# Altium footprint library MedEnginePCBLib.PcbLib: 54 footprints (part 1 of 4)
Each footprint in its own frame and in the unit in brackets; x right, y up, seen from the top. Pads: shape width x height; smd on the part's side, far side on the other; paste and mask are expansions set on the pad; w line width, h text height; cw(c..) or ccw(c..) is an arc to the next point about the centre after c.
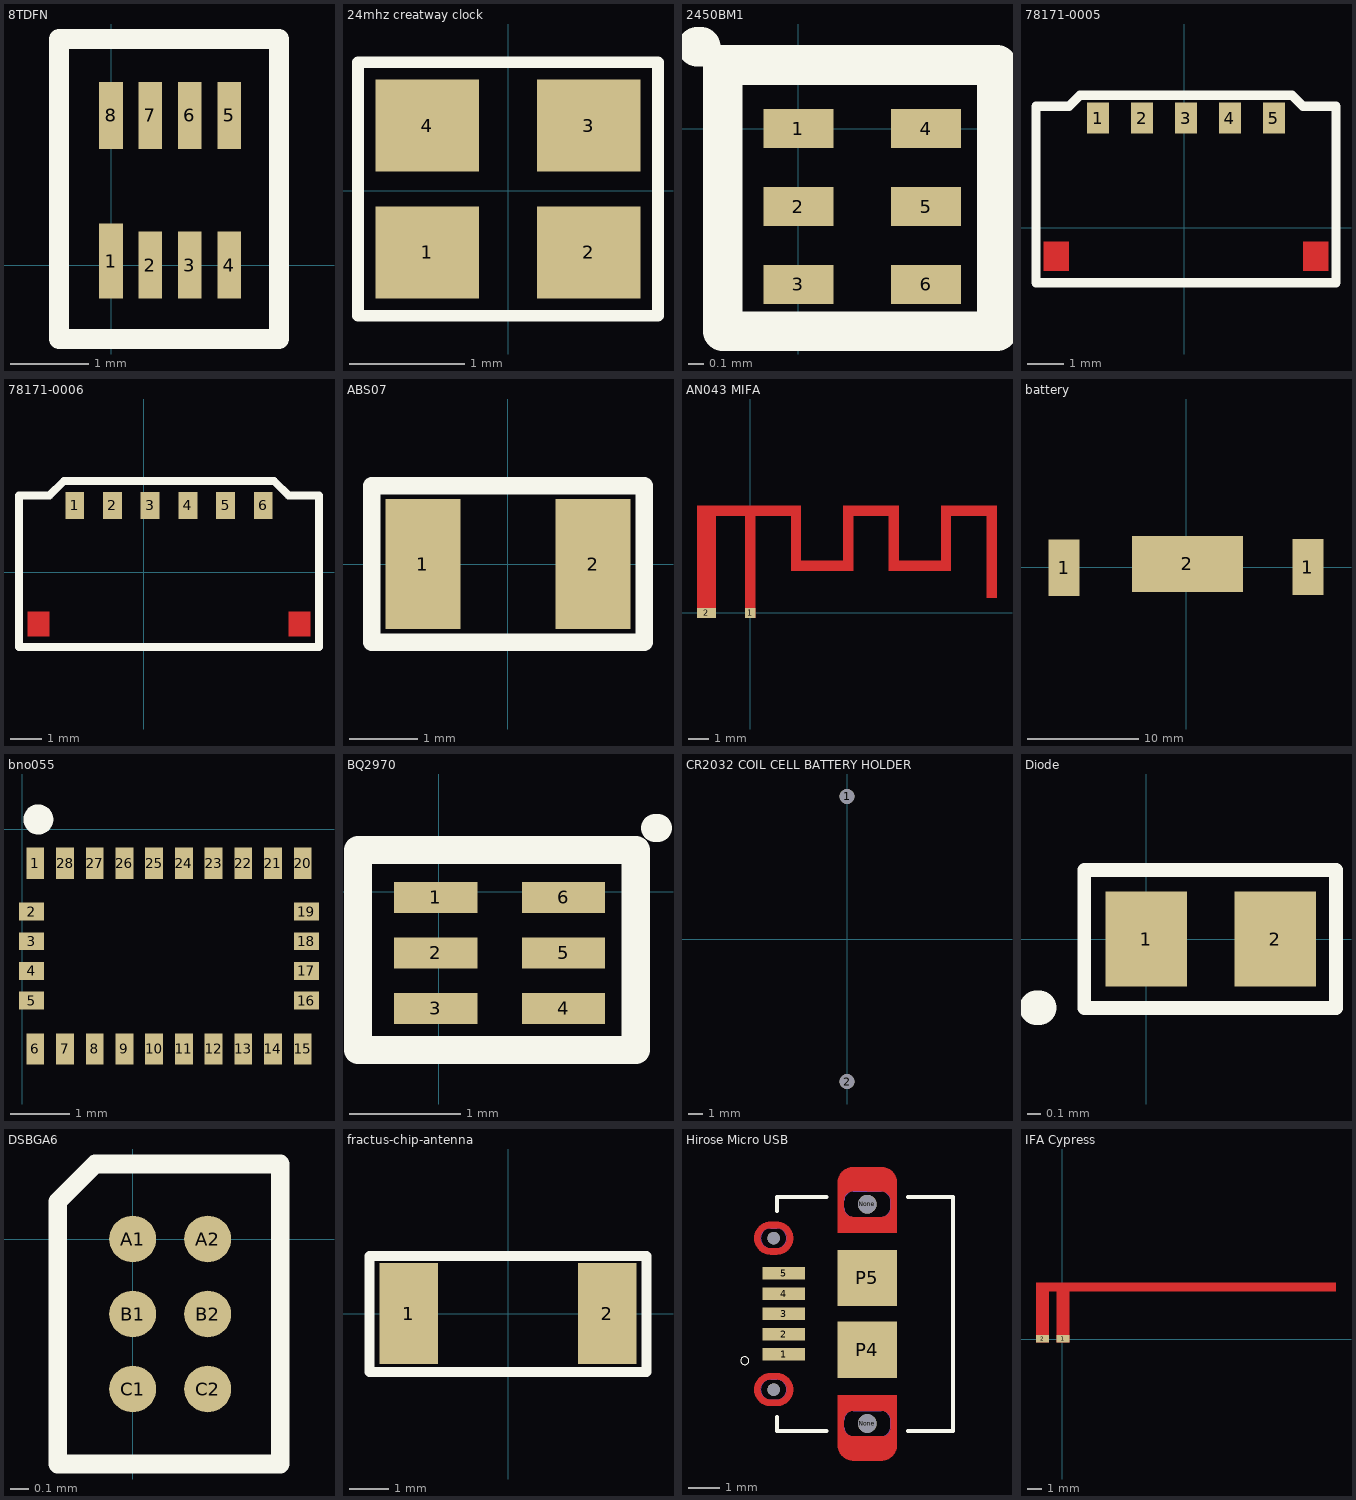
[diagram p0: the footprints below, top view; thin cyan lines are the x and y axes]

## 8TDFN [mm] "For MAX14595 (land pattern 90-0349)"
pads (8):
  rect 0.3x0.95 smd mask+0.05: 1(0,0.051)
  rect 0.3x0.85 smd mask+0.05: 2(0.5,0) 3(1,0) 4(1.5,0) 5(1.5,1.9) 6(1,1.9) 7(0.5,1.9) 8(0,1.9)
Top Overlay:
  lines w0.254: -0.66,-0.94 2.134,-0.94 2.134,2.87 0.737,2.87 -0.66,2.87 -0.66,-0.94
3D body: height 0.75, standoff 0, extent -0.279,-0.051 1.803,1.956

## 24mhz creatway clock [mm]
pads (4):
  rect 0.9x0.8 smd: 1(-0.7,-0.533) 2(0.7,-0.533) 3(0.7,0.567) 4(-0.7,0.567)
Top Overlay:
  lines w0.1: -1.3,-1.083 1.3,-1.083 1.3,1.117 -1.3,1.117 -1.3,-1.083

## 2450BM1 [mm]
pads (6):
  rect 0.45x0.25 smd mask+0.05: 1(0,0) 2(0,-0.5) 3(0,-1) 4(0.82,0) 5(0.82,-0.5) 6(0.82,-1)
Top Overlay:
  lines w0.254: -0.65,0.525 -0.625,0.525 ; -0.485,-1.3 -0.485,0.408 1.275,0.408 1.275,-1.3 -0.485,-1.3

## 78171-0005 [mm] "PicoMate 5 way header"
height 2
pads (5):
  rect 0.6x0.85 smd mask+0.05: 1(-2.35,3) 2(-1.15,3) 3(0.05,3) 4(1.25,3) 5(2.45,3)
Top Layer:
  rectangle: -3.85,-1.175 -3.15,-0.375
  rectangle: 3.25,-1.175 3.95,-0.375
Top Overlay:
  lines w0.254: -4.05,-1.5 4.15,-1.5 4.15,3.325 3.25,3.325 2.95,3.625 -2.85,3.625 -3.15,3.325 -4.05,3.325 -4.05,-1.5
3D body "PicoMate5.stp": height 1.4, standoff -0.05, extent -3.85,-1.365 3.95,3.165

## 78171-0006 [mm]
pads (6):
  rect 0.6x0.85 smd mask+0.05: 1(-2.2,2.125) 2(-1,2.125) 3(0.2,2.125) 4(1.4,2.125) 5(2.6,2.125) 6(3.8,2.125)
Top Layer:
  rectangle: -3.7,-2.05 -3,-1.25
  rectangle: 4.6,-2.05 5.3,-1.25
Top Overlay:
  lines w0.254: -3.975,-2.375 5.575,-2.375 5.575,2.45 4.6,2.45 4.15,2.9 -2.55,2.9 -3,2.45 -3.975,2.45 -3.975,-2.375
3D body "781715006.stp": height 1.4, standoff -0.05, extent -3.7,-2.125 5.3,2.405

## ABS07 [mm] "32.768kHz Crystal"
height 1
pads (2):
  rect 1.1x1.9 smd mask+0.05: 1(-1.25,0) 2(1.25,0)
Top Overlay:
  lines w0.254: -2,-1.15 -2,1.15 2,1.15 2,-1.15 -2,-1.15
3D body "ABS07.STEP": height 0.89, standoff 0, extent -1.6,-0.749 1.6,0.749

## AN043 MIFA [mm]
pads (2):
  rect 0.5x0.5 smd paste-10 mask+0.102: 1(0,0)
  rect 0.9x0.5 smd paste-10 mask+0.102: 2(-2.1,0)
Top Layer:
  rectangle: 11.35,4.2 11.85,5.15
  rectangle: 9.15,4.3 9.65,5.15
  rectangle: 8.925,2.01 9.65,2.51
  rectangle: 6.95,2.01 7.4,2.51
  rectangle: 6.65,4.35 7.15,5.15
  rectangle: 4.45,4.425 4.95,5.15
  rectangle: 4.15,2.01 4.95,2.51
  rectangle: 2.275,2.01 2.825,2.51
  rectangle: 1.95,4.425 2.45,4.8
  rectangle: -0.25,4.6 0.25,4.725
  rectangle: -2.55,4.575 -1.65,5.15
  rectangle: 11.35,0.71 11.85,4.65
  rectangle: 9.15,4.65 11.85,5.15
  rectangle: 9.15,2.01 9.65,4.65
  rectangle: 7.15,2.01 9.15,2.51
  rectangle: 6.65,2.01 7.15,4.65
  rectangle: 4.45,2.01 4.95,4.65
  rectangle: -0.25,-0.25 0.25,4.65
  rectangle: 4.45,4.65 7.15,5.15
  rectangle: 2.45,2.01 4.45,2.51
  rectangle: 1.95,2.01 2.45,4.65
  rectangle: -2.55,4.65 2.45,5.15
  rectangle: -2.55,-0.25 -1.65,4.65

## battery [mm]
pads (3):
  rect 2.79x5.08 smd mask+0: 1(-10.985,-0.075) 1(10.985,0)
  rect 10x5.08 smd mask+0: 2(0.125,0.275)
3D body "BK-912.STEP": height 4.32, standoff 0, extent -11.25,-7.972 11.61,7.272

## bno055 [mm]
pads (28):
  rect 0.3x0.525 smd: 1(0.224,-0.576) 6(0.224,-3.7) 7(0.724,-3.7) 8(1.224,-3.7) 9(1.724,-3.7) 10(2.224,-3.7) 11(2.724,-3.7) 12(3.224,-3.7) 13(3.724,-3.7) 14(4.224,-3.7) 15(4.724,-3.7) 20(4.724,-0.576) 21(4.224,-0.576) 22(3.724,-0.576) 23(3.224,-0.576) 24(2.724,-0.576) 25(2.224,-0.576) 26(1.724,-0.576) 27(1.224,-0.576) 28(0.724,-0.576)
  rect 0.425x0.3 smd: 2(0.162,-1.388) 3(0.162,-1.888) 4(0.162,-2.388) 5(0.162,-2.888) 16(4.787,-2.888) 17(4.787,-2.388) 18(4.787,-1.888) 19(4.787,-1.388)
Top Overlay:
  circle w0.305: c0.274,0.162 r0.1
3D body: height 19.5, standoff 18.7, extent 2.075,-4.775 2.075,-4.775
3D body: height 19.5, standoff 18.7, extent 2.075,-4.775 2.075,-4.775
3D body: height 1, standoff 0, extent -0.125,-4.025 5.05,-0.175

## BQ2970 [mm] "PCM FOR LIP"
pads (6):
  rect 0.75x0.28 smd mask+0.05: 1(-0.025,-0.05) 2(-0.025,-0.55) 3(-0.025,-1.05) 4(1.125,-1.05) 5(1.125,-0.55) 6(1.125,-0.05)
Top Overlay:
  lines w0.254: 1.95,0.575 1.975,0.575 ; -0.725,-1.425 -0.725,0.375 1.775,0.375 1.775,-1.425 -0.725,-1.425
3D body: height 1, standoff 0, extent -0.6,-1.35 1.65,0.25

## CR2032 COIL CELL BATTERY HOLDER [mm]
pads (2):
  round 1.04 hole 1.04: 1(0,10) 2(0,-10)
3D body "BH32T-C.STEP": height 7.62, standoff -3.99, extent -12.065,-12.079 12.065,13.575

## Diode [mm] "VLMW1500"
pads (2):
  rect 0.6x0.7 smd mask+0.05: 1(0,0) 2(0.95,0)
Top Overlay:
  lines w0.1: -0.457,-0.508 -0.457,0.508 1.397,0.508 1.397,-0.508 -0.457,-0.508
  lines w0.254: -0.813,-0.508 -0.787,-0.508
3D body: height 0.35, standoff 0, extent -0.064,-0.254 1.029,0.279

## DSBGA6 [mm]
pads (6):
  round 0.25 smd mask+0: A1(0,0) A2(0.4,0) B1(0,-0.4) B2(0.4,-0.4) C1(0,-0.8) C2(0.4,-0.8)
Top Overlay:
  lines w0.1: -0.4,-1.2 0.787,-1.2 0.787,0.4 -0.2,0.4 -0.4,0.2 -0.4,-1.2
3D body "BQ25100.STEP": height 0.49, standoff -0.01, extent -0.247,-1.206 0.653,0.394

## fractus-chip-antenna [mm]
pads (2):
  rect 1.5x2.6 smd: 1(-2.55,0) 2(2.55,0)
Top Overlay:
  lines w0.254: -3.55,-1.5 3.55,-1.5 3.55,1.475 -3.55,1.475 -3.55,-1.5
3D body: height 0.25, standoff 0, extent 0,0.05 0,0.05
3D body: height 0.25, standoff 0, extent -0.45,2.012 -0.45,2.012
3D body: height 0.25, standoff 0, extent -0.45,2.012 -0.45,2.012
3D body: height 0.25, standoff 0, extent -0.45,2.012 -0.45,2.012
3D body "FR05-S1-N-0-102 CRX-102.stp": height 2.2, standoff 0.1, extent -3.5,-1.45 3.5,1.55

## Hirose Micro USB [mm]
height 4
pads (11):
  rect 1.35x0.4 smd: 1(10.226,-19.055) 2(10.226,-18.405) 3(10.226,-17.755) 4(10.226,-17.105) 5(10.226,-16.455)
  round 0.4 hole 0.4 unplated: None(9.901,-20.18) None(9.901,-15.33)
  round 0.6 hole 0.6 unplated: None(12.901,-21.268) None(12.901,-14.243)
  rect 1.9x1.8 smd: P4(12.901,-18.905) P5(12.901,-16.605)
Top Layer:
  region: 12.901,-14.655 12.901,-15.155 11.951,-15.155 11.951,-13.555 11.951,-13.542 11.952,-13.516 11.955,-13.49 11.959,-13.464 11.965,-13.438 11.971,-13.413 11.98,-13.388 11.989,-13.364 12,-13.34 12.011,-13.316 12.025,-13.294 12.039,-13.272 12.054,-13.251 12.071,-13.23 12.088,-13.211 12.107,-13.192 12.126,-13.175 12.147,-13.158 12.168,-13.143 12.19,-13.129 12.212,-13.115 12.236,-13.104 12.26,-13.093 12.284,-13.084 12.309,-13.075 12.334,-13.069 12.36,-13.063 12.386,-13.059 12.412,-13.056 12.438,-13.055 12.451,-13.055 12.901,-13.055 12.901,-13.83 12.426,-13.83 12.419,-13.83 12.404,-13.831 12.39,-13.832 12.376,-13.835 12.362,-13.838 12.348,-13.841 12.334,-13.846 12.321,-13.851 12.308,-13.857 12.295,-13.863 12.282,-13.87 12.27,-13.878 12.259,-13.887 12.247,-13.896 12.237,-13.905 12.226,-13.916 12.217,-13.926 12.208,-13.938 12.199,-13.949 12.191,-13.961 12.184,-13.974 12.178,-13.987 12.172,-14 12.167,-14.013 12.162,-14.027 12.159,-14.041 12.156,-14.055 12.153,-14.069 12.152,-14.083 12.151,-14.098 12.151,-14.105 12.151,-14.355 12.151,-14.363 12.152,-14.379 12.153,-14.394 12.156,-14.41 12.159,-14.425 12.163,-14.44 12.168,-14.455 12.174,-14.47 12.18,-14.484 12.187,-14.498 12.195,-14.512 12.204,-14.525 12.213,-14.538 12.223,-14.55 12.233,-14.562 12.244,-14.573 12.256,-14.583 12.268,-14.593 12.281,-14.602 12.294,-14.611 12.308,-14.619 12.322,-14.626 12.336,-14.632 12.351,-14.638 12.366,-14.643 12.381,-14.647 12.396,-14.65 12.412,-14.653 12.427,-14.654 12.443,-14.655 12.451,-14.655
  region: 12.901,-20.855 12.901,-20.355 13.851,-20.355 13.851,-21.955 13.851,-21.968 13.85,-21.994 13.847,-22.02 13.843,-22.046 13.837,-22.072 13.831,-22.097 13.822,-22.122 13.813,-22.146 13.802,-22.17 13.791,-22.194 13.777,-22.216 13.763,-22.238 13.748,-22.259 13.731,-22.28 13.714,-22.299 13.695,-22.318 13.676,-22.335 13.655,-22.352 13.634,-22.367 13.612,-22.381 13.59,-22.395 13.566,-22.406 13.542,-22.417 13.518,-22.426 13.493,-22.435 13.468,-22.441 13.442,-22.447 13.416,-22.451 13.39,-22.454 13.364,-22.455 13.351,-22.455 12.901,-22.455 12.901,-21.68 13.376,-21.68 13.383,-21.68 13.398,-21.679 13.412,-21.678 13.426,-21.675 13.44,-21.672 13.454,-21.669 13.468,-21.664 13.481,-21.659 13.494,-21.653 13.507,-21.647 13.52,-21.64 13.532,-21.632 13.543,-21.623 13.555,-21.614 13.565,-21.605 13.576,-21.594 13.585,-21.584 13.594,-21.572 13.603,-21.561 13.611,-21.549 13.618,-21.536 13.624,-21.523 13.63,-21.51 13.635,-21.497 13.64,-21.483 13.643,-21.469 13.646,-21.455 13.649,-21.441 13.65,-21.427 13.651,-21.412 13.651,-21.405 13.651,-21.155 13.651,-21.147 13.65,-21.131 13.649,-21.116 13.646,-21.1 13.643,-21.085 13.639,-21.07 13.634,-21.055 13.628,-21.04 13.622,-21.026 13.615,-21.012 13.607,-20.998 13.598,-20.985 13.589,-20.972 13.579,-20.96 13.569,-20.948 13.558,-20.937 13.546,-20.927 13.534,-20.917 13.521,-20.908 13.508,-20.899 13.494,-20.891 13.48,-20.884 13.466,-20.878 13.451,-20.872 13.436,-20.867 13.421,-20.863 13.406,-20.86 13.39,-20.857 13.375,-20.856 13.359,-20.855 13.351,-20.855
  region: 13.851,-15.155 13.851,-13.555 13.851,-13.542 13.85,-13.516 13.847,-13.49 13.843,-13.464 13.837,-13.438 13.831,-13.413 13.822,-13.388 13.813,-13.364 13.802,-13.34 13.791,-13.316 13.777,-13.294 13.763,-13.272 13.748,-13.251 13.731,-13.23 13.714,-13.211 13.695,-13.192 13.676,-13.175 13.655,-13.158 13.634,-13.143 13.612,-13.129 13.59,-13.115 13.566,-13.104 13.542,-13.093 13.518,-13.084 13.493,-13.075 13.468,-13.069 13.442,-13.063 13.416,-13.059 13.39,-13.056 13.364,-13.055 13.351,-13.055 12.901,-13.055 12.901,-13.83 13.351,-13.83 13.359,-13.83 13.375,-13.831 13.39,-13.832 13.406,-13.835 13.421,-13.838 13.436,-13.842 13.451,-13.847 13.466,-13.853 13.48,-13.859 13.494,-13.866 13.508,-13.874 13.521,-13.883 13.534,-13.892 13.546,-13.902 13.558,-13.912 13.569,-13.923 13.579,-13.935 13.589,-13.947 13.598,-13.96 13.607,-13.973 13.615,-13.987 13.622,-14.001 13.628,-14.015 13.634,-14.03 13.639,-14.045 13.643,-14.06 13.646,-14.075 13.649,-14.091 13.65,-14.106 13.651,-14.122 13.651,-14.13 13.651,-14.355 13.651,-14.363 13.65,-14.379 13.649,-14.394 13.646,-14.41 13.643,-14.425 13.639,-14.44 13.634,-14.455 13.628,-14.47 13.622,-14.484 13.615,-14.498 13.607,-14.512 13.598,-14.525 13.589,-14.538 13.579,-14.55 13.569,-14.562 13.558,-14.573 13.546,-14.583 13.534,-14.593 13.521,-14.602 13.508,-14.611 13.494,-14.619 13.48,-14.626 13.466,-14.632 13.451,-14.638 13.436,-14.643 13.421,-14.647 13.406,-14.65 13.39,-14.653 13.375,-14.654 13.359,-14.655 13.351,-14.655 12.901,-14.655 12.901,-15.155
  region: 11.951,-20.355 11.951,-21.955 11.951,-21.968 11.952,-21.994 11.955,-22.02 11.959,-22.046 11.965,-22.072 11.971,-22.097 11.98,-22.122 11.989,-22.146 12,-22.17 12.011,-22.194 12.025,-22.216 12.039,-22.238 12.054,-22.259 12.071,-22.28 12.088,-22.299 12.107,-22.318 12.126,-22.335 12.147,-22.352 12.168,-22.367 12.19,-22.381 12.212,-22.395 12.236,-22.406 12.26,-22.417 12.284,-22.426 12.309,-22.435 12.334,-22.441 12.36,-22.447 12.386,-22.451 12.412,-22.454 12.438,-22.455 12.451,-22.455 12.901,-22.455 12.901,-21.68 12.451,-21.68 12.443,-21.68 12.427,-21.679 12.412,-21.678 12.396,-21.675 12.381,-21.672 12.366,-21.668 12.351,-21.663 12.336,-21.657 12.322,-21.651 12.308,-21.644 12.294,-21.636 12.281,-21.627 12.268,-21.618 12.256,-21.608 12.244,-21.598 12.233,-21.587 12.223,-21.575 12.213,-21.563 12.204,-21.55 12.195,-21.537 12.187,-21.523 12.18,-21.509 12.174,-21.495 12.168,-21.48 12.163,-21.465 12.159,-21.45 12.156,-21.435 12.153,-21.419 12.152,-21.404 12.151,-21.388 12.151,-21.38 12.151,-21.155 12.151,-21.147 12.152,-21.131 12.153,-21.116 12.156,-21.1 12.159,-21.085 12.163,-21.07 12.168,-21.055 12.174,-21.04 12.18,-21.026 12.187,-21.012 12.195,-20.998 12.204,-20.985 12.213,-20.972 12.223,-20.96 12.233,-20.948 12.244,-20.937 12.256,-20.927 12.268,-20.917 12.281,-20.908 12.294,-20.899 12.308,-20.891 12.322,-20.884 12.336,-20.878 12.351,-20.872 12.366,-20.867 12.381,-20.863 12.396,-20.86 12.412,-20.857 12.427,-20.856 12.443,-20.855 12.451,-20.855 12.901,-20.855 12.901,-20.355
  region: 10.326,-15.33 10.526,-15.33 10.526,-15.344 10.525,-15.371 10.522,-15.399 10.517,-15.426 10.512,-15.453 10.505,-15.479 10.496,-15.505 10.486,-15.531 10.475,-15.556 10.463,-15.581 10.449,-15.604 10.434,-15.627 10.418,-15.65 10.4,-15.671 10.382,-15.692 10.363,-15.711 10.342,-15.729 10.321,-15.747 10.298,-15.763 10.275,-15.778 10.252,-15.792 10.227,-15.804 10.202,-15.815 10.176,-15.825 10.15,-15.834 10.124,-15.841 10.097,-15.846 10.07,-15.851 10.042,-15.854 10.015,-15.855 10.001,-15.855 9.801,-15.855 9.787,-15.855 9.76,-15.854 9.732,-15.851 9.705,-15.846 9.678,-15.841 9.652,-15.834 9.626,-15.825 9.6,-15.815 9.575,-15.804 9.55,-15.792 9.527,-15.778 9.504,-15.763 9.481,-15.747 9.46,-15.729 9.439,-15.711 9.42,-15.692 9.402,-15.671 9.384,-15.65 9.368,-15.627 9.353,-15.604 9.339,-15.581 9.327,-15.556 9.316,-15.531 9.306,-15.505 9.297,-15.479 9.29,-15.453 9.285,-15.426 9.28,-15.399 9.277,-15.371 9.276,-15.344 9.276,-15.33 9.476,-15.33 9.476,-15.339 9.477,-15.356 9.479,-15.372 9.481,-15.389 9.485,-15.406 9.489,-15.422 9.495,-15.439 9.501,-15.454 9.508,-15.47 9.515,-15.485 9.524,-15.5 9.533,-15.514 9.543,-15.528 9.554,-15.541 9.565,-15.554 9.577,-15.566 9.59,-15.577 9.603,-15.588 9.617,-15.598 9.631,-15.607 9.646,-15.616 9.661,-15.623 9.677,-15.63 9.692,-15.636 9.709,-15.642 9.725,-15.646 9.742,-15.65 9.759,-15.652 9.775,-15.654 9.792,-15.655 9.801,-15.655 10.001,-15.655 10.01,-15.655 10.027,-15.654 10.043,-15.652 10.06,-15.65 10.077,-15.646 10.093,-15.642 10.11,-15.636 10.125,-15.63 10.141,-15.623 10.156,-15.616 10.171,-15.607 10.185,-15.598 10.199,-15.588 10.212,-15.577 10.225,-15.566 10.237,-15.554 10.248,-15.541 10.259,-15.528 10.269,-15.514 10.278,-15.5 10.287,-15.485 10.294,-15.47 10.301,-15.454 10.307,-15.439 10.313,-15.422 10.317,-15.406 10.321,-15.389 10.323,-15.372 10.325,-15.356 10.326,-15.339
  region: 9.476,-15.33 9.276,-15.33 9.276,-15.316 9.277,-15.289 9.28,-15.261 9.285,-15.234 9.29,-15.207 9.297,-15.181 9.306,-15.155 9.316,-15.129 9.327,-15.104 9.339,-15.079 9.353,-15.056 9.368,-15.033 9.384,-15.01 9.402,-14.989 9.42,-14.968 9.439,-14.949 9.46,-14.931 9.481,-14.913 9.504,-14.897 9.527,-14.882 9.55,-14.868 9.575,-14.856 9.6,-14.845 9.626,-14.835 9.652,-14.826 9.678,-14.819 9.705,-14.814 9.732,-14.809 9.76,-14.806 9.787,-14.805 9.801,-14.805 10.001,-14.805 10.015,-14.805 10.042,-14.806 10.07,-14.809 10.097,-14.814 10.124,-14.819 10.15,-14.826 10.176,-14.835 10.202,-14.845 10.227,-14.856 10.252,-14.868 10.275,-14.882 10.298,-14.897 10.321,-14.913 10.342,-14.931 10.363,-14.949 10.382,-14.968 10.4,-14.989 10.418,-15.01 10.434,-15.033 10.449,-15.056 10.463,-15.079 10.475,-15.104 10.486,-15.129 10.496,-15.155 10.505,-15.181 10.512,-15.207 10.517,-15.234 10.522,-15.261 10.525,-15.289 10.526,-15.316 10.526,-15.33 10.326,-15.33 10.326,-15.321 10.325,-15.304 10.323,-15.288 10.321,-15.271 10.317,-15.254 10.313,-15.238 10.307,-15.221 10.301,-15.206 10.294,-15.19 10.287,-15.175 10.278,-15.16 10.269,-15.146 10.259,-15.132 10.248,-15.119 10.237,-15.106 10.225,-15.094 10.212,-15.083 10.199,-15.072 10.185,-15.062 10.171,-15.053 10.156,-15.044 10.141,-15.037 10.125,-15.03 10.11,-15.024 10.093,-15.018 10.077,-15.014 10.06,-15.01 10.043,-15.008 10.027,-15.006 10.01,-15.005 10.001,-15.005 9.801,-15.005 9.792,-15.005 9.775,-15.006 9.759,-15.008 9.742,-15.01 9.725,-15.014 9.709,-15.018 9.692,-15.024 9.677,-15.03 9.661,-15.037 9.646,-15.044 9.631,-15.053 9.617,-15.062 9.603,-15.072 9.59,-15.083 9.577,-15.094 9.565,-15.106 9.554,-15.119 9.543,-15.132 9.533,-15.146 9.524,-15.16 9.515,-15.175 9.508,-15.19 9.501,-15.206 9.495,-15.221 9.489,-15.238 9.485,-15.254 9.481,-15.271 9.479,-15.288 9.477,-15.304 9.476,-15.321
  region: 10.326,-20.18 10.526,-20.18 10.526,-20.194 10.525,-20.221 10.522,-20.249 10.517,-20.276 10.512,-20.303 10.505,-20.329 10.496,-20.355 10.486,-20.381 10.475,-20.406 10.463,-20.431 10.449,-20.454 10.434,-20.477 10.418,-20.5 10.4,-20.521 10.382,-20.542 10.363,-20.561 10.342,-20.579 10.321,-20.597 10.298,-20.613 10.275,-20.628 10.252,-20.642 10.227,-20.654 10.202,-20.665 10.176,-20.675 10.15,-20.684 10.124,-20.691 10.097,-20.696 10.07,-20.701 10.042,-20.704 10.015,-20.705 10.001,-20.705 9.801,-20.705 9.787,-20.705 9.76,-20.704 9.732,-20.701 9.705,-20.696 9.678,-20.691 9.652,-20.684 9.626,-20.675 9.6,-20.665 9.575,-20.654 9.55,-20.642 9.527,-20.628 9.504,-20.613 9.481,-20.597 9.46,-20.579 9.439,-20.561 9.42,-20.542 9.402,-20.521 9.384,-20.5 9.368,-20.477 9.353,-20.454 9.339,-20.431 9.327,-20.406 9.316,-20.381 9.306,-20.355 9.297,-20.329 9.29,-20.303 9.285,-20.276 9.28,-20.249 9.277,-20.221 9.276,-20.194 9.276,-20.18 9.476,-20.18 9.476,-20.189 9.477,-20.206 9.479,-20.222 9.481,-20.239 9.485,-20.256 9.489,-20.272 9.495,-20.289 9.501,-20.304 9.508,-20.32 9.515,-20.335 9.524,-20.35 9.533,-20.364 9.543,-20.378 9.554,-20.391 9.565,-20.404 9.577,-20.416 9.59,-20.427 9.603,-20.438 9.617,-20.448 9.631,-20.457 9.646,-20.466 9.661,-20.473 9.677,-20.48 9.692,-20.486 9.709,-20.492 9.725,-20.496 9.742,-20.5 9.759,-20.502 9.775,-20.504 9.792,-20.505 9.801,-20.505 10.001,-20.505 10.01,-20.505 10.027,-20.504 10.043,-20.502 10.06,-20.5 10.077,-20.496 10.093,-20.492 10.11,-20.486 10.125,-20.48 10.141,-20.473 10.156,-20.466 10.171,-20.457 10.185,-20.448 10.199,-20.438 10.212,-20.427 10.225,-20.416 10.237,-20.404 10.248,-20.391 10.259,-20.378 10.269,-20.364 10.278,-20.35 10.287,-20.335 10.294,-20.32 10.301,-20.304 10.307,-20.289 10.313,-20.272 10.317,-20.256 10.321,-20.239 10.323,-20.222 10.325,-20.206 10.326,-20.189
  region: 9.476,-20.18 9.276,-20.18 9.276,-20.166 9.277,-20.139 9.28,-20.111 9.285,-20.084 9.29,-20.057 9.297,-20.031 9.306,-20.005 9.316,-19.979 9.327,-19.954 9.339,-19.929 9.353,-19.906 9.368,-19.883 9.384,-19.86 9.402,-19.839 9.42,-19.818 9.439,-19.799 9.46,-19.781 9.481,-19.763 9.504,-19.747 9.527,-19.732 9.55,-19.718 9.575,-19.706 9.6,-19.695 9.626,-19.685 9.652,-19.676 9.678,-19.669 9.705,-19.664 9.732,-19.659 9.76,-19.656 9.787,-19.655 9.801,-19.655 10.001,-19.655 10.015,-19.655 10.042,-19.656 10.07,-19.659 10.097,-19.664 10.124,-19.669 10.15,-19.676 10.176,-19.685 10.202,-19.695 10.227,-19.706 10.252,-19.718 10.275,-19.732 10.298,-19.747 10.321,-19.763 10.342,-19.781 10.363,-19.799 10.382,-19.818 10.4,-19.839 10.418,-19.86 10.434,-19.883 10.449,-19.906 10.463,-19.929 10.475,-19.954 10.486,-19.979 10.496,-20.005 10.505,-20.031 10.512,-20.057 10.517,-20.084 10.522,-20.111 10.525,-20.139 10.526,-20.166 10.526,-20.18 10.326,-20.18 10.326,-20.171 10.325,-20.154 10.323,-20.138 10.321,-20.121 10.317,-20.104 10.313,-20.088 10.307,-20.071 10.301,-20.056 10.294,-20.04 10.287,-20.025 10.278,-20.01 10.269,-19.996 10.259,-19.982 10.248,-19.969 10.237,-19.956 10.225,-19.944 10.212,-19.933 10.199,-19.922 10.185,-19.912 10.171,-19.903 10.156,-19.894 10.141,-19.887 10.125,-19.88 10.11,-19.874 10.093,-19.868 10.077,-19.864 10.06,-19.86 10.043,-19.858 10.027,-19.856 10.01,-19.855 10.001,-19.855 9.801,-19.855 9.792,-19.855 9.775,-19.856 9.759,-19.858 9.742,-19.86 9.725,-19.864 9.709,-19.868 9.692,-19.874 9.677,-19.88 9.661,-19.887 9.646,-19.894 9.631,-19.903 9.617,-19.912 9.603,-19.922 9.59,-19.933 9.577,-19.944 9.565,-19.956 9.554,-19.969 9.543,-19.982 9.533,-19.996 9.524,-20.01 9.515,-20.025 9.508,-20.04 9.501,-20.056 9.495,-20.071 9.489,-20.088 9.485,-20.104 9.481,-20.121 9.479,-20.138 9.477,-20.154 9.476,-20.171
Top Overlay:
  circle w0: c8.976,-19.255 r0.127
  lines w0.127: 10.001,-21.055 10.001,-21.505 11.601,-21.505 ; 10.001,-14.455 10.001,-14.005 11.601,-14.005 ; 14.201,-21.505 15.651,-21.505 15.651,-14.005 14.201,-14.005
Top Paste:
  drawing of 8 lines, arcs and shapes, not listed
Top Solder:
  region: 11.851,-15.251 11.851,-12.955 13.957,-12.955 13.957,-15.251
  region: 11.851,-22.564 11.851,-20.255 13.958,-20.255 13.958,-22.564
  region: 9.176,-15.951 9.176,-14.705 10.627,-14.705 10.627,-15.951
  region: 9.176,-20.807 9.176,-19.555 10.626,-19.555 10.626,-20.807
Mechanical 1:
  lines w0.01: 9.476,-20.18 ccw(c9.801,-20.18) 9.801,-20.505 10.001,-20.505 ccw(c10.001,-20.18) 10.326,-20.18 ccw(c10.001,-20.18) 10.001,-19.855 9.801,-19.855 ccw(c9.801,-20.18) 9.476,-20.18 ; 9.476,-15.33 ccw(c9.801,-15.33) 9.801,-15.655 10.001,-15.655 ccw(c10.001,-15.33) 10.326,-15.33 ccw(c10.001,-15.33) 10.001,-15.005 9.801,-15.005 ccw(c9.801,-15.33) 9.476,-15.33 ; 12.151,-21.38 ccw(c12.451,-21.38) 12.451,-21.68 13.351,-21.68 ccw(c13.351,-21.38) 13.651,-21.38 13.651,-21.155 ccw(c13.351,-21.155) 13.351,-20.855 12.451,-20.855 ccw(c12.451,-21.155) 12.151,-21.155 12.151,-21.38 ; 12.151,-14.355 ccw(c12.451,-14.355) 12.451,-14.655 13.351,-14.655 ccw(c13.351,-14.355) 13.651,-14.355 13.651,-14.13 ccw(c13.351,-14.13) 13.351,-13.83 12.451,-13.83 ccw(c12.451,-14.13) 12.151,-14.13 12.151,-14.355
3D body "Micro USB-B Female 5Pin SMD.STEP": height 3, standoff -0.72, extent 9.5,-21.775 15.3,-13.725

## IFA Cypress [mm]
pads (2):
  rect 0.889x0.5 smd paste-10 mask+0.102: 1(0.05,0.05) 2(-1.35,0.05)
Top Layer:
  rectangle: -1.8,3.25 18.599,3.86
  rectangle: -1.8,-0.213 -0.911,3.851
  rectangle: -0.4,-0.204 0.489,3.86